# Altium footprint library CELLULAR.PcbLib: 19 footprints (part 1 of 2)
Each footprint in its own frame and in the unit in brackets; x right, y up, seen from the top. Pads: shape width x height; smd on the part's side, far side on the other; paste and mask are expansions set on the pad; w line width, h text height; cw(c..) or ccw(c..) is an arc to the next point about the centre after c.
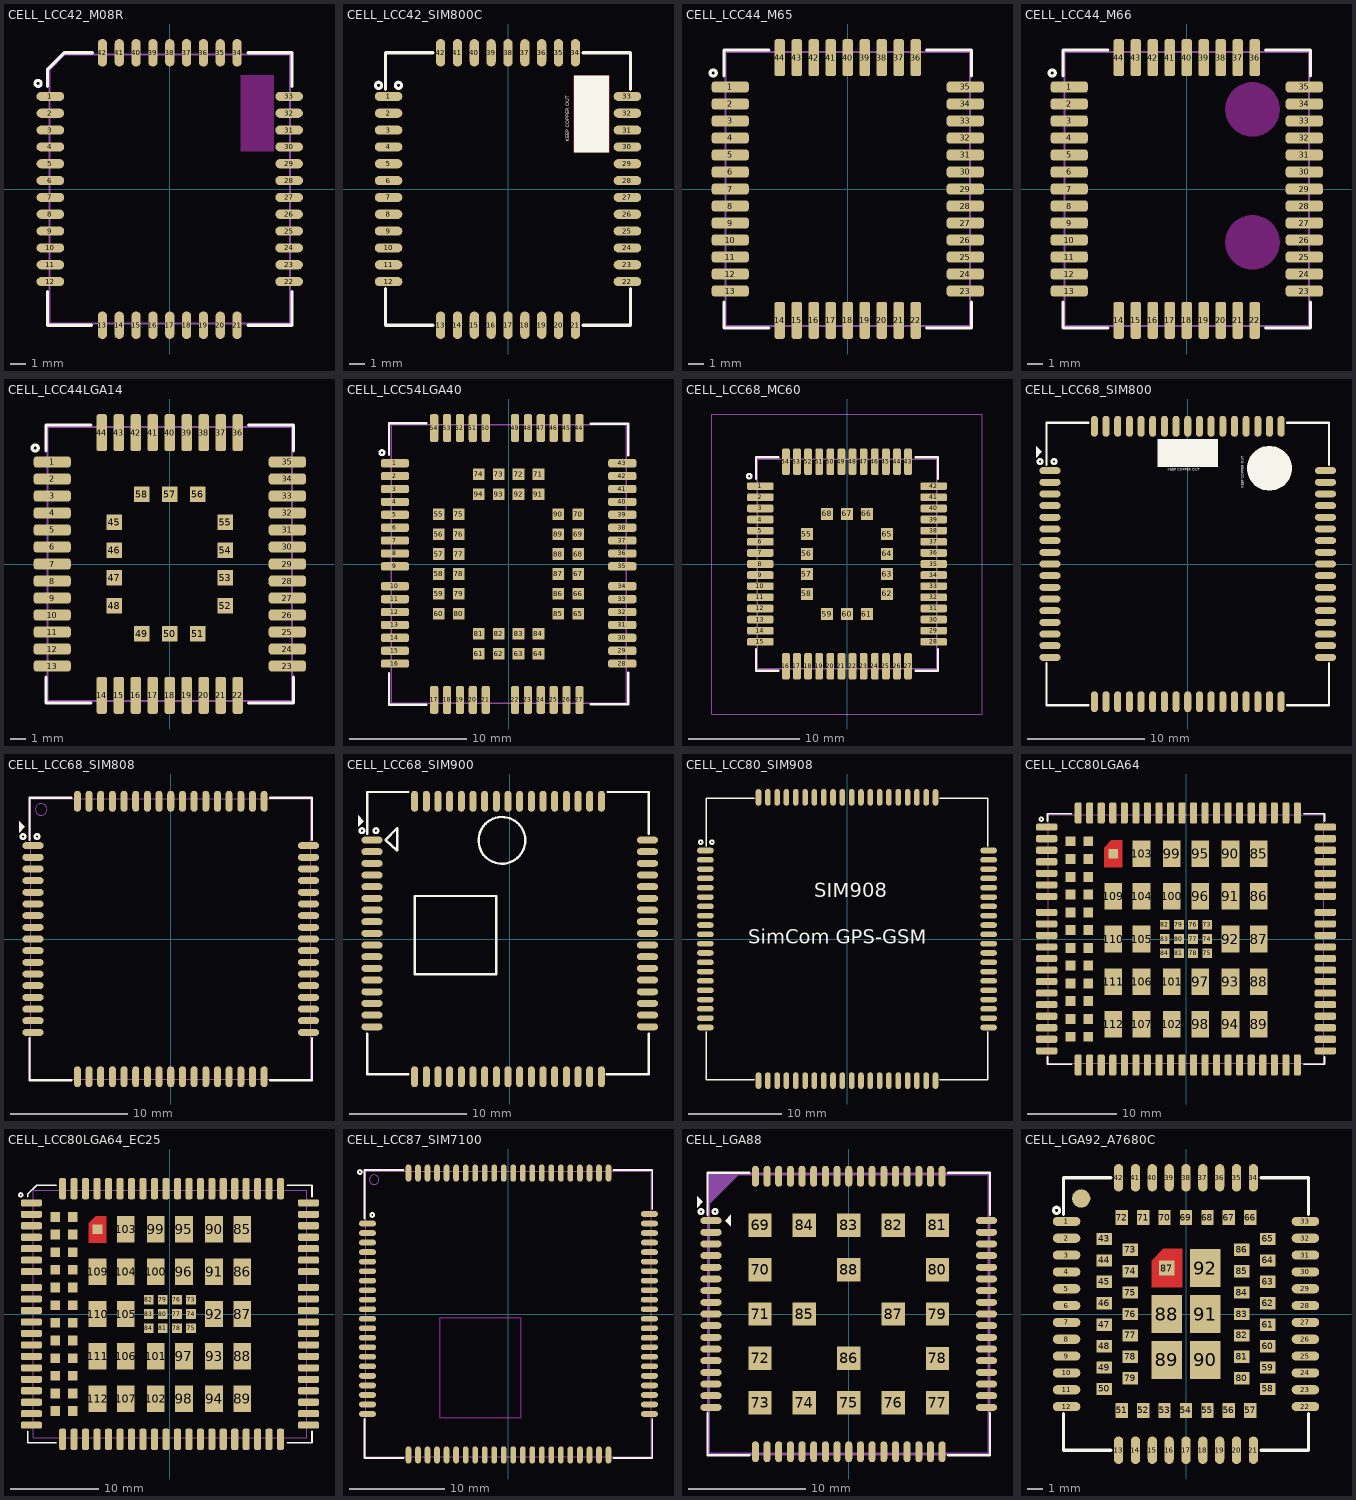
[diagram p0: the footprints below, top view; thin cyan lines are the x and y axes]

## CELL_LCC42_M08R [mm] "LCC-42 17.6x15.7x2.4mm. M08-R"
height 2.6
pads (42):
  oval 1.8x0.6 smd: 1(-7.8,6.05) 2(-7.8,4.95) 3(-7.8,3.85) 4(-7.8,2.75) 5(-7.8,1.65) 6(-7.8,0.55) 7(-7.8,-0.55) 8(-7.8,-1.65) 9(-7.8,-2.75) 10(-7.8,-3.85) 11(-7.8,-4.95) 12(-7.8,-6.05) 22(7.8,-6.05) 23(7.8,-4.95) 24(7.8,-3.85) 25(7.8,-2.75) 26(7.8,-1.65) 27(7.8,-0.55) 28(7.8,0.55) 29(7.8,1.65) 30(7.8,2.75) 31(7.8,3.85) 32(7.8,4.95) 33(7.8,6.05)
  oval 0.6x1.8 smd: 13(-4.4,-8.9) 14(-3.3,-8.9) 15(-2.2,-8.9) 16(-1.1,-8.9) 17(0,-8.9) 18(1.1,-8.9) 19(2.2,-8.9) 20(3.3,-8.9) 21(4.4,-8.9) 34(4.4,8.9) 35(3.3,8.9) 36(2.2,8.9) 37(1.1,8.9) 38(0,8.9) 39(-1.1,8.9) 40(-2.2,8.9) 41(-3.3,8.9) 42(-4.4,8.9)
Top Layer keep-out:
  region: 6.8,2.48 4.65,2.48 4.65,7.43 6.8,7.43
Top Overlay:
  circle w0.2: c-8.6,6.9 r0.2
  lines w0.2: -8,-6.7 -8,-8.9 -5.1,-8.9 ; -8,6.695 -8,7.8 -6.9,8.9 -5.045,8.9 ; 5.1,-8.9 8,-8.9 8,-6.7 ; 5.1,8.9 8,8.9 8,6.7
Mechanical 13:
  lines w0.127: -7.85,-8.8 -7.85,7.8 -6.85,8.8 7.85,8.8 7.85,-8.8 -7.85,-8.8
3D body "step_temp.STEP": height 2.6, standoff 0, extent -7.85,-8.8 7.85,8.8

## CELL_LCC42_SIM800C [mm] "LCC-42 17.6x15.7x2.3mm"
pads (42):
  oval 1.8x0.6 smd: 1(-7.8,6.05) 2(-7.8,4.95) 3(-7.8,3.85) 4(-7.8,2.75) 5(-7.8,1.65) 6(-7.8,0.55) 7(-7.8,-0.55) 8(-7.8,-1.65) 9(-7.8,-2.75) 10(-7.8,-3.85) 11(-7.8,-4.95) 12(-7.8,-6.05) 22(7.8,-6.05) 23(7.8,-4.95) 24(7.8,-3.85) 25(7.8,-2.75) 26(7.8,-1.65) 27(7.8,-0.55) 28(7.8,0.55) 29(7.8,1.65) 30(7.8,2.75) 31(7.8,3.85) 32(7.8,4.95) 33(7.8,6.05)
  oval 0.6x1.8 smd: 13(-4.4,-8.9) 14(-3.3,-8.9) 15(-2.2,-8.9) 16(-1.1,-8.9) 17(0,-8.9) 18(1.1,-8.9) 19(2.2,-8.9) 20(3.3,-8.9) 21(4.4,-8.9) 34(4.4,8.9) 35(3.3,8.9) 36(2.2,8.9) 37(1.1,8.9) 38(0,8.9) 39(-1.1,8.9) 40(-2.2,8.9) 41(-3.3,8.9) 42(-4.4,8.9)
Top Layer:
  pour cut-out: 6.6,7.4 4.3,7.4 4.3,2.4 6.6,2.4
Top Overlay:
  circle w0.2: c-7.155,6.774 r0.2
  circle w0.2: c-8.455,6.774 r0.2
  rectangle: 4.3,2.4 6.6,7.4
  lines w0.2: -8,-6.5 -8,-8.9 -4.9,-8.9 ; -8,6.5 -8,8.9 -4.9,8.9 ; 4.9,-8.9 8,-8.9 8,-6.5 ; 4.9,8.9 8,8.9 8,6.5
  text "KEEP COPPER OUT" at 4.1,3.1 h0.4
3D body "SIM800C-1.STEP": height 2.37, standoff 0.03, extent -7.849,-8.812 7.851,8.788

## CELL_LCC44_M65 [mm] "LCC-44, 17.7x15.8x2.4mm"
height 2.6
pads (44):
  rrect50% 2.4x0.7 smd paste-0.05: 1(-7.6,6.6) 2(-7.6,5.5) 3(-7.6,4.4) 4(-7.6,3.3) 5(-7.6,2.2) 6(-7.6,1.1) 7(-7.6,0) 8(-7.6,-1.1) 9(-7.6,-2.2) 10(-7.6,-3.3) 11(-7.6,-4.4) 12(-7.6,-5.5) 13(-7.6,-6.6) 23(7.6,-6.6) 24(7.6,-5.5) 25(7.6,-4.4) 26(7.6,-3.3) 27(7.6,-2.2) 28(7.6,-1.1) 29(7.6,0) 30(7.6,1.1) 31(7.6,2.2) 32(7.6,3.3) 33(7.6,4.4) 34(7.6,5.5) 35(7.6,6.6)
  rrect50% 0.7x2.4 smd paste-0.05: 14(-4.4,-8.5) 15(-3.3,-8.5) 16(-2.2,-8.5) 17(-1.1,-8.5) 18(0,-8.5) 19(1.1,-8.5) 20(2.2,-8.5) 21(3.3,-8.5) 22(4.4,-8.5) 36(4.4,8.5) 37(3.3,8.5) 38(2.2,8.5) 39(1.1,8.5) 40(0,8.5) 41(-1.1,8.5) 42(-2.2,8.5) 43(-3.3,8.5) 44(-4.4,8.5)
Top Overlay:
  circle w0.2: c-8.7,7.5 r0.2
  lines w0.2: -8,-7.3 -8,-9 -5.1,-9 ; -8,7.3 -8,9 -5.1,9 ; 5.1,-9 8,-9 8,-7.3 ; 5.1,9 8,9 8,7.3
Mechanical 13:
  lines w0.127: -7.9,-8.85 -7.9,8.85 7.9,8.85 7.9,-8.85 -7.9,-8.85
3D body "step_temp.STEP": height 2.6, standoff 0, extent -7.9,-8.85 7.9,8.85

## CELL_LCC44_M66 [mm] "LCC-44, 17.7x15.8x2.4mm"
height 2.6
pads (44):
  rrect50% 2.4x0.7 smd paste-0.05: 1(-7.6,6.6) 2(-7.6,5.5) 3(-7.6,4.4) 4(-7.6,3.3) 5(-7.6,2.2) 6(-7.6,1.1) 7(-7.6,0) 8(-7.6,-1.1) 9(-7.6,-2.2) 10(-7.6,-3.3) 11(-7.6,-4.4) 12(-7.6,-5.5) 13(-7.6,-6.6) 23(7.6,-6.6) 24(7.6,-5.5) 25(7.6,-4.4) 26(7.6,-3.3) 27(7.6,-2.2) 28(7.6,-1.1) 29(7.6,0) 30(7.6,1.1) 31(7.6,2.2) 32(7.6,3.3) 33(7.6,4.4) 34(7.6,5.5) 35(7.6,6.6)
  rrect50% 0.7x2.4 smd paste-0.05: 14(-4.4,-8.5) 15(-3.3,-8.5) 16(-2.2,-8.5) 17(-1.1,-8.5) 18(0,-8.5) 19(1.1,-8.5) 20(2.2,-8.5) 21(3.3,-8.5) 22(4.4,-8.5) 36(4.4,8.5) 37(3.3,8.5) 38(2.2,8.5) 39(1.1,8.5) 40(0,8.5) 41(-1.1,8.5) 42(-2.2,8.5) 43(-3.3,8.5) 44(-4.4,8.5)
Top Layer keep-out:
  region: 4.342,-1.702 4.433,-1.71 4.524,-1.722 4.614,-1.738 4.703,-1.76 4.791,-1.786 4.877,-1.816 4.962,-1.851 5.044,-1.891 5.125,-1.934 5.203,-1.982 5.279,-2.034 5.351,-2.09 5.421,-2.149 5.487,-2.213 5.551,-2.279 5.61,-2.349 5.666,-2.421 5.718,-2.497 5.766,-2.575 5.809,-2.656 5.849,-2.738 5.884,-2.823 5.914,-2.909 5.94,-2.997 5.962,-3.086 5.978,-3.176 5.99,-3.267 5.998,-3.358 6,-3.45 5.998,-3.542 5.99,-3.633 5.978,-3.724 5.962,-3.814 5.94,-3.903 5.914,-3.991 5.884,-4.077 5.849,-4.162 5.809,-4.244 5.766,-4.325 5.718,-4.403 5.666,-4.479 5.61,-4.551 5.551,-4.621 5.487,-4.687 5.421,-4.751 5.351,-4.81 5.279,-4.866 5.203,-4.918 5.125,-4.966 5.044,-5.009 4.962,-5.049 4.877,-5.084 4.791,-5.114 4.703,-5.14 4.614,-5.162 4.524,-5.178 4.433,-5.19 4.342,-5.198 4.25,-5.2 4.158,-5.198 4.067,-5.19 3.976,-5.178 3.886,-5.162 3.797,-5.14 3.709,-5.114 3.623,-5.084 3.538,-5.049 3.456,-5.009 3.375,-4.966 3.297,-4.918 3.221,-4.866 3.149,-4.81 3.079,-4.751 3.013,-4.687 2.949,-4.621 2.89,-4.551 2.834,-4.479 2.782,-4.403 2.734,-4.325 2.691,-4.244 2.651,-4.162 2.616,-4.077 2.586,-3.991 2.56,-3.903 2.538,-3.814 2.522,-3.724 2.51,-3.633 2.502,-3.542 2.5,-3.45 2.502,-3.358 2.51,-3.267 2.522,-3.176 2.538,-3.086 2.56,-2.997 2.586,-2.909 2.616,-2.823 2.651,-2.738 2.691,-2.656 2.734,-2.575 2.782,-2.497 2.834,-2.421 2.89,-2.349 2.949,-2.279 3.013,-2.213 3.079,-2.149 3.149,-2.09 3.221,-2.034 3.297,-1.982 3.375,-1.934 3.456,-1.891 3.538,-1.851 3.623,-1.816 3.709,-1.786 3.797,-1.76 3.886,-1.738 3.976,-1.722 4.067,-1.71 4.158,-1.702 4.25,-1.7
  region: 4.342,6.898 4.433,6.89 4.524,6.878 4.614,6.862 4.703,6.84 4.791,6.814 4.877,6.784 4.962,6.749 5.044,6.709 5.125,6.666 5.203,6.618 5.279,6.566 5.351,6.51 5.421,6.451 5.487,6.387 5.551,6.321 5.61,6.251 5.666,6.179 5.718,6.103 5.766,6.025 5.809,5.944 5.849,5.862 5.884,5.777 5.914,5.691 5.94,5.603 5.962,5.514 5.978,5.424 5.99,5.333 5.998,5.242 6,5.15 5.998,5.058 5.99,4.967 5.978,4.876 5.962,4.786 5.94,4.697 5.914,4.609 5.884,4.523 5.849,4.438 5.809,4.356 5.766,4.275 5.718,4.197 5.666,4.121 5.61,4.049 5.551,3.979 5.487,3.913 5.421,3.849 5.351,3.79 5.279,3.734 5.203,3.682 5.125,3.634 5.044,3.591 4.962,3.551 4.877,3.516 4.791,3.486 4.703,3.46 4.614,3.438 4.524,3.422 4.433,3.41 4.342,3.402 4.25,3.4 4.158,3.402 4.067,3.41 3.976,3.422 3.886,3.438 3.797,3.46 3.709,3.486 3.623,3.516 3.538,3.551 3.456,3.591 3.375,3.634 3.297,3.682 3.221,3.734 3.149,3.79 3.079,3.849 3.013,3.913 2.949,3.979 2.89,4.049 2.834,4.121 2.782,4.197 2.734,4.275 2.691,4.356 2.651,4.438 2.616,4.523 2.586,4.609 2.56,4.697 2.538,4.786 2.522,4.876 2.51,4.967 2.502,5.058 2.5,5.15 2.502,5.242 2.51,5.333 2.522,5.424 2.538,5.514 2.56,5.603 2.586,5.691 2.616,5.777 2.651,5.862 2.691,5.944 2.734,6.025 2.782,6.103 2.834,6.179 2.89,6.251 2.949,6.321 3.013,6.387 3.079,6.451 3.149,6.51 3.221,6.566 3.297,6.618 3.375,6.666 3.456,6.709 3.538,6.749 3.623,6.784 3.709,6.814 3.797,6.84 3.886,6.862 3.976,6.878 4.067,6.89 4.158,6.898 4.25,6.9
Top Overlay:
  circle w0.2: c-8.7,7.5 r0.2
  lines w0.2: -8,-7.3 -8,-9 -5.1,-9 ; -8,7.3 -8,9 -5.1,9 ; 5.1,-9 8,-9 8,-7.3 ; 5.1,9 8,9 8,7.3
Mechanical 13:
  lines w0.127: -7.9,-8.85 7.9,-8.85 7.9,8.85 -7.9,8.85 -7.9,-8.85
3D body "step_temp.STEP": height 2.5, standoff 0, extent -7.9,-8.85 7.9,8.85

## CELL_LCC44LGA14 [mm] "LCC-44 + LGA-14, 17.7x15.8x2.4mm"
height 2.6
pads (58):
  rrect50% 2.4x0.7 smd paste-0.05: 1(-7.6,6.6) 2(-7.6,5.5) 3(-7.6,4.4) 4(-7.6,3.3) 5(-7.6,2.2) 6(-7.6,1.1) 7(-7.6,0) 8(-7.6,-1.1) 9(-7.6,-2.2) 10(-7.6,-3.3) 11(-7.6,-4.4) 12(-7.6,-5.5) 13(-7.6,-6.6) 23(7.6,-6.6) 24(7.6,-5.5) 25(7.6,-4.4) 26(7.6,-3.3) 27(7.6,-2.2) 28(7.6,-1.1) 29(7.6,0) 30(7.6,1.1) 31(7.6,2.2) 32(7.6,3.3) 33(7.6,4.4) 34(7.6,5.5) 35(7.6,6.6)
  rrect50% 0.7x2.4 smd paste-0.05: 14(-4.4,-8.5) 15(-3.3,-8.5) 16(-2.2,-8.5) 17(-1.1,-8.5) 18(0,-8.5) 19(1.1,-8.5) 20(2.2,-8.5) 21(3.3,-8.5) 22(4.4,-8.5) 36(4.4,8.5) 37(3.3,8.5) 38(2.2,8.5) 39(1.1,8.5) 40(0,8.5) 41(-1.1,8.5) 42(-2.2,8.5) 43(-3.3,8.5) 44(-4.4,8.5)
  rect 1x1 smd paste-0.053: 45(-3.6,2.7) 46(-3.6,0.9) 47(-3.6,-0.9) 48(-3.6,-2.7) 49(-1.8,-4.5) 50(0,-4.5) 51(1.8,-4.5) 52(3.6,-2.7) 53(3.6,-0.9) 54(3.6,0.9) 55(3.6,2.7) 56(1.8,4.5) 57(0,4.5) 58(-1.8,4.5)
Top Overlay:
  circle w0.2: c-8.7,7.5 r0.2
  lines w0.2: -8,-7.3 -8,-9 -5.1,-9 ; -8,7.3 -8,9 -5.1,9 ; 5.1,-9 8,-9 8,-7.3 ; 5.1,9 8,9 8,7.3
Mechanical 13:
  lines w0.127: -7.9,-8.85 -7.9,8.85 7.9,8.85 7.9,-8.85 -7.9,-8.85
3D body "step_temp.STEP": height 2, standoff 0, extent -7.9,-8.85 7.9,8.85
3D body "step_temp.STEP": height 2.6, standoff 0, extent -7.9,-8.85 7.9,8.85

## CELL_LCC54LGA40 [mm] "LCC-44 + LGA-14, 23.6x19.9x2.2mm"
pads (94):
  rrect50% 2.4x0.7 smd paste-0.057: 1(-9.7,8.6) 2(-9.7,7.5) 3(-9.7,6.4) 4(-9.7,5.3) 5(-9.7,4.2) 6(-9.7,3.1) 7(-9.7,2) 8(-9.7,0.9) 9(-9.7,-0.2) 10(-9.7,-1.9) 11(-9.7,-3) 12(-9.7,-4.1) 13(-9.7,-5.2) 14(-9.7,-6.3) 15(-9.7,-7.4) 16(-9.7,-8.5) 28(9.7,-8.5) 29(9.7,-7.4) 30(9.7,-6.3) 31(9.7,-5.2) 32(9.7,-4.1) 33(9.7,-3) 34(9.7,-1.9) 35(9.7,-0.2) 36(9.7,0.9) 37(9.7,2) 38(9.7,3.1) 39(9.7,4.2) 40(9.7,5.3) 41(9.7,6.4) 42(9.7,7.5) 43(9.7,8.6)
  rrect50% 0.7x2.4 smd paste-0.057: 17(-6.35,-11.6) 18(-5.25,-11.6) 19(-4.15,-11.6) 20(-3.05,-11.6) 21(-1.95,-11.6) 22(0.55,-11.6) 23(1.65,-11.6) 24(2.75,-11.6) 25(3.85,-11.6) 26(4.95,-11.6) 27(6.05,-11.6) 44(6.05,11.6) 45(4.95,11.6) 46(3.85,11.6) 47(2.75,11.6) 48(1.65,11.6) 49(0.55,11.6) 50(-1.95,11.6) 51(-3.05,11.6) 52(-4.15,11.6) 53(-5.25,11.6) 54(-6.35,11.6)
  rect 1x1 smd paste-0.053: 55(-5.95,4.25) 56(-5.95,2.55) 57(-5.95,0.85) 58(-5.95,-0.85) 59(-5.95,-2.55) 60(-5.95,-4.25) 61(-2.55,-7.65) 62(-0.85,-7.65) 63(0.85,-7.65) 64(2.55,-7.65) 65(5.95,-4.25) 66(5.95,-2.55) 67(5.95,-0.85) 68(5.95,0.85) 69(5.95,2.55) 70(5.95,4.25) 71(2.55,7.65) 72(0.85,7.65) 73(-0.85,7.65) 74(-2.55,7.65) 75(-4.25,4.25) 76(-4.25,2.55) 77(-4.25,0.85) 78(-4.25,-0.85) 79(-4.25,-2.55) 80(-4.25,-4.25) 81(-2.55,-5.95) 82(-0.85,-5.95) 83(0.85,-5.95) 84(2.55,-5.95) 85(4.25,-4.25) 86(4.25,-2.55) 87(4.25,-0.85) 88(4.25,0.85) 89(4.25,2.55) 90(4.25,4.25) 91(2.55,5.95) 92(0.85,5.95) 93(-0.85,5.95) 94(-2.55,5.95)
Top Overlay:
  circle w0.2: c-10.8,9.5 r0.2
  lines w0.2: -10.2,-9.3 -10.2,-12 -7,-12 ; -10.2,9.3 -10.2,12 -7,12 ; 7.001,-11.97 10.201,-11.97 10.201,-9.27 ; 7.001,11.97 10.201,11.97 10.201,9.27
Mechanical 13:
  lines w0.127: -10.025,-11.875 10.025,-11.875 10.025,11.875 -10.025,11.875 -10.025,-11.875
3D body "BC95GJB-02-STD.STEP": height 2.4, standoff 0, extent -9.95,-11.8 9.95,11.8

## CELL_LCC68_MC60 [mm] "LCC-68, 18.7x16x2.1mm"
pads (68):
  rrect50% 2.4x0.7 smd paste-0.057 mask+0.075: 1(-7.8,7) 2(-7.8,6) 3(-7.8,5) 4(-7.8,4) 5(-7.8,3) 6(-7.8,2) 7(-7.8,1) 8(-7.8,0) 9(-7.8,-1) 10(-7.8,-2) 11(-7.8,-3) 12(-7.8,-4) 13(-7.8,-5) 14(-7.8,-6) 15(-7.8,-7) 28(7.8,-7) 29(7.8,-6) 30(7.8,-5) 31(7.8,-4) 32(7.8,-3) 33(7.8,-2) 34(7.8,-1) 35(7.8,0) 36(7.8,1) 37(7.8,2) 38(7.8,3) 39(7.8,4) 40(7.8,5) 41(7.8,6) 42(7.8,7)
  rrect50% 0.7x2.4 smd paste-0.057 mask+0.075: 16(-5.5,-9.2) 17(-4.5,-9.2) 18(-3.5,-9.2) 19(-2.5,-9.2) 20(-1.5,-9.2) 21(-0.5,-9.2) 22(0.5,-9.2) 23(1.5,-9.2) 24(2.5,-9.2) 25(3.5,-9.2) 26(4.5,-9.2) 27(5.5,-9.2) 43(5.5,9.2) 44(4.5,9.2) 45(3.5,9.2) 46(2.5,9.2) 47(1.5,9.2) 48(0.5,9.2) 49(-0.5,9.2) 50(-1.5,9.2) 51(-2.5,9.2) 52(-3.5,9.2) 53(-4.5,9.2) 54(-5.5,9.2)
  rect 1.1x1.1 smd paste-0.09 mask+0.075: 55(-3.6,2.7) 56(-3.6,0.9) 57(-3.6,-0.9) 58(-3.6,-2.7) 59(-1.8,-4.5) 60(0,-4.5) 61(1.8,-4.5) 62(3.6,-2.7) 63(3.6,-0.9) 64(3.6,0.9) 65(3.6,2.7) 66(1.8,4.5) 67(0,4.5) 68(-1.8,4.5)
Top Overlay:
  circle w0.2: c-8.8,7.9 r0.2
  lines w0.2: -8.2,-7.664 -8.2,-9.6 -6.164,-9.6 ; -8.2,7.664 -8.2,9.6 -6.164,9.6 ; 6.164,-9.6 8.2,-9.6 8.2,-7.664 ; 6.164,9.6 8.2,9.6 8.2,7.664
Mechanical 13:
  lines w0.127: -8.075,-9.425 -8.075,9.425 8.075,9.425 8.075,-9.425 -8.075,-9.425
Mechanical 15:
  lines w0.05: -12.15,-13.5 -12.15,13.5 12.15,13.5 12.15,-13.5 -12.15,-13.5
3D body "MC60--3DModel-STEP-269445.STEP": height 2.15, standoff 0, extent -8,-9.35 8,9.35

## CELL_LCC68_SIM800 [mm] "LCC-68 24x24x3mm"
pads (68):
  oval 1.8x0.6 smd: 1(-11.8,8) 2(-11.8,7) 3(-11.8,6) 4(-11.8,5) 5(-11.8,4) 6(-11.8,3) 7(-11.8,2) 8(-11.8,1) 9(-11.8,0) 10(-11.8,-1) 11(-11.8,-2) 12(-11.8,-3) 13(-11.8,-4) 14(-11.8,-5) 15(-11.8,-6) 16(-11.8,-7) 17(-11.8,-8) 35(11.8,-8) 36(11.8,-7) 37(11.8,-6) 38(11.8,-5) 39(11.8,-4) 40(11.8,-3) 41(11.8,-2) 42(11.8,-1) 43(11.8,0) 44(11.8,1) 45(11.8,2) 46(11.8,3) 47(11.8,4) 48(11.8,5) 49(11.8,6) 50(11.8,7) 51(11.8,8)
  oval 0.6x1.8 smd: 18(-8,-11.8) 19(-7,-11.8) 20(-6,-11.8) 21(-5,-11.8) 22(-4,-11.8) 23(-3,-11.8) 24(-2,-11.8) 25(-1,-11.8) 26(0,-11.8) 27(1,-11.8) 28(2,-11.8) 29(3,-11.8) 30(4,-11.8) 31(5,-11.8) 32(6,-11.8) 33(7,-11.8) 34(8,-11.8) 52(8,11.8) 53(7,11.8) 54(6,11.8) 55(5,11.8) 56(4,11.8) 57(3,11.8) 58(2,11.8) 59(1,11.8) 60(0,11.8) 61(-1,11.8) 62(-2,11.8) 63(-3,11.8) 64(-4,11.8) 65(-5,11.8) 66(-6,11.8) 67(-7,11.8) 68(-8,11.8)
Top Overlay:
  circle w0.2: c-11.455,8.774 r0.2
  circle w0.2: c-12.655,8.774 r0.2
  rectangle: -2.6,8.3 2.6,10.7
  region: -13,9.1 -13,10.1 -12.5,9.6
  region: 5.1,8.2 5.1,8.387 5.173,8.754 5.316,9.1 5.524,9.411 5.789,9.676 6.1,9.884 6.446,10.027 6.813,10.1 7,10.1 7.187,10.1 7.554,10.027 7.9,9.884 8.211,9.676 8.476,9.411 8.684,9.1 8.827,8.754 8.9,8.387 8.9,8.2 8.9,8.013 8.827,7.646 8.684,7.3 8.476,6.989 8.211,6.724 7.9,6.516 7.554,6.373 7.187,6.3 7,6.3 6.813,6.3 6.446,6.373 6.1,6.516 5.789,6.724 5.524,6.989 5.316,7.3 5.173,7.646 5.1,8.013
  lines w0.2: -12.1,-8.5 -12.1,-12.1 -8.5,-12.1 ; -12.1,8.5 -12.1,12.1 -8.5,12.1 ; 8.5,-12.1 12.1,-12.1 12.1,-8.5 ; 8.5,12.1 12.1,12.1 12.1,8.5
  text "KEEP COPPER OUT" at 4.9,6.5 h0.4
  text "KEEP COPPER OUT" at -1.7,7.9 h0.4
3D body "User Library-SIM800.step": height 3.1, standoff 0.1, extent -12,-12 12,12

## CELL_LCC68_SIM808 [mm] "GSM Module, SIM808, 1mm pitch, LCC-68 24x24x2.6mm"
height 2.6
pads (68):
  oval 1.8x0.6 smd: 1(-11.8,8) 2(-11.8,7) 3(-11.8,6) 4(-11.8,5) 5(-11.8,4) 6(-11.8,3) 7(-11.8,2) 8(-11.8,1) 9(-11.8,0) 10(-11.8,-1) 11(-11.8,-2) 12(-11.8,-3) 13(-11.8,-4) 14(-11.8,-5) 15(-11.8,-6) 16(-11.8,-7) 17(-11.8,-8) 35(11.8,-8) 36(11.8,-7) 37(11.8,-6) 38(11.8,-5) 39(11.8,-4) 40(11.8,-3) 41(11.8,-2) 42(11.8,-1) 43(11.8,0) 44(11.8,1) 45(11.8,2) 46(11.8,3) 47(11.8,4) 48(11.8,5) 49(11.8,6) 50(11.8,7) 51(11.8,8)
  oval 0.6x1.8 smd: 18(-8,-11.8) 19(-7,-11.8) 20(-6,-11.8) 21(-5,-11.8) 22(-4,-11.8) 23(-3,-11.8) 24(-2,-11.8) 25(-1,-11.8) 26(0,-11.8) 27(1,-11.8) 28(2,-11.8) 29(3,-11.8) 30(4,-11.8) 31(5,-11.8) 32(6,-11.8) 33(7,-11.8) 34(8,-11.8) 52(8,11.8) 53(7,11.8) 54(6,11.8) 55(5,11.8) 56(4,11.8) 57(3,11.8) 58(2,11.8) 59(1,11.8) 60(0,11.8) 61(-1,11.8) 62(-2,11.8) 63(-3,11.8) 64(-4,11.8) 65(-5,11.8) 66(-6,11.8) 67(-7,11.8) 68(-8,11.8)
Top Overlay:
  circle w0.2: c-12.655,8.774 r0.2
  circle w0.2: c-11.455,8.774 r0.2
  region: -13,9.1 -13,10.1 -12.5,9.6
  lines w0.2: -12.1,-8.5 -12.1,-12.1 -8.5,-12.1 ; -12.1,8.5 -12.1,12.1 -8.5,12.1 ; 8.5,-12.1 12.1,-12.1 12.1,-8.5 ; 8.5,12.1 12.1,12.1 12.1,8.5
Mechanical 13:
  circle w0.1: c-11.1,11.1 r0.5
  lines w0.1: -12,-12 -12,12 12,12 12,-12 -12,-12
3D body "User Library-SIM808.step": height 2.9, standoff 0, extent -12,-12 12,12

## CELL_LCC68_SIM900 [mm] "LCC-68 24x24x3mm"
pads (68):
  oval 1.8x0.6 smd mask+0.1: 1(-11.8,8.48) 2(-11.8,7.48) 3(-11.8,6.48) 4(-11.8,5.48) 5(-11.8,4.48) 6(-11.8,3.48) 7(-11.8,2.48) 8(-11.8,1.48) 9(-11.8,0.48) 10(-11.8,-0.52) 11(-11.8,-1.52) 12(-11.8,-2.52) 13(-11.8,-3.52) 14(-11.8,-4.52) 15(-11.8,-5.52) 16(-11.8,-6.52) 17(-11.8,-7.52) 35(11.8,-7.52) 36(11.8,-6.52) 37(11.8,-5.52) 38(11.8,-4.52) 39(11.8,-3.52) 40(11.8,-2.52) 41(11.8,-1.52) 42(11.8,-0.52) 43(11.8,0.48) 44(11.8,1.48) 45(11.8,2.48) 46(11.8,3.48) 47(11.8,4.48) 48(11.8,5.48) 49(11.8,6.48) 50(11.8,7.48) 51(11.8,8.48)
  oval 0.6x1.8 smd mask+0.1: 18(-8.15,-11.8) 19(-7.15,-11.8) 20(-6.15,-11.8) 21(-5.15,-11.8) 22(-4.15,-11.8) 23(-3.15,-11.8) 24(-2.15,-11.8) 25(-1.15,-11.8) 26(-0.15,-11.8) 27(0.85,-11.8) 28(1.85,-11.8) 29(2.85,-11.8) 30(3.85,-11.8) 31(4.85,-11.8) 32(5.85,-11.8) 33(6.85,-11.8) 34(7.85,-11.8) 52(7.85,11.8) 53(6.85,11.8) 54(5.85,11.8) 55(4.85,11.8) 56(3.85,11.8) 57(2.85,11.8) 58(1.85,11.8) 59(0.85,11.8) 60(-0.15,11.8) 61(-1.15,11.8) 62(-2.15,11.8) 63(-3.15,11.8) 64(-4.15,11.8) 65(-5.15,11.8) 66(-6.15,11.8) 67(-7.15,11.8) 68(-8.15,11.8)
Top Overlay:
  circle w0.2: c-11.455,9.274 r0.2
  circle w0.2: c-12.655,9.274 r0.2
  circle w0.2: c-0.67,8.45 r2
  region: -13,9.6 -13,10.6 -12.5,10.1
  lines w0.2: -12.2,-8.1 -12.2,-11.6 -8.7,-11.6 ; -12.2,9 -12.2,12.6 -8.7,12.6 ; 8.3,-11.6 11.9,-11.6 11.9,-8.1 ; 8.4,12.6 11.9,12.6 11.9,9 ; -10.65,8.48 -9.65,9.48 -9.65,7.58 -10.65,8.48 ; -8.15,-3.02 -1.15,-3.02 -1.15,3.68 -8.15,3.68 -8.15,-3.02
3D body "GSM_SIM900.STEP": height 3, standoff 0, extent -12.15,-11.5 11.85,12.5

## CELL_LCC80_SIM908 [mm] "LCC-80 30x30x3.2mm"
pads (80):
  oval 1.8x0.6 smd: 1(-15.2,9.5) 2(-15.2,8.5) 3(-15.2,7.5) 4(-15.2,6.5) 5(-15.2,5.5) 6(-15.2,4.5) 7(-15.2,3.5) 8(-15.2,2.5) 9(-15.2,1.5) 10(-15.2,0.5) 11(-15.2,-0.5) 12(-15.2,-1.5) 13(-15.2,-2.5) 14(-15.2,-3.5) 15(-15.2,-4.5) 16(-15.2,-5.5) 17(-15.2,-6.5) 18(-15.2,-7.5) 19(-15.2,-8.5) 20(-15.2,-9.5) 41(15.2,-9.5) 42(15.2,-8.5) 43(15.2,-7.5) 44(15.2,-6.5) 45(15.2,-5.5) 46(15.2,-4.5) 47(15.2,-3.5) 48(15.2,-2.5) 49(15.2,-1.5) 50(15.2,-0.5) 51(15.2,0.5) 52(15.2,1.5) 53(15.2,2.5) 54(15.2,3.5) 55(15.2,4.5) 56(15.2,5.5) 57(15.2,6.5) 58(15.2,7.5) 59(15.2,8.5) 60(15.2,9.5)
  oval 0.6x1.8 smd: 21(-9.5,-15.2) 22(-8.5,-15.2) 23(-7.5,-15.2) 24(-6.5,-15.2) 25(-5.5,-15.2) 26(-4.5,-15.2) 27(-3.5,-15.2) 28(-2.5,-15.2) 29(-1.5,-15.2) 30(-0.5,-15.2) 31(0.5,-15.2) 32(1.5,-15.2) 33(2.5,-15.2) 34(3.5,-15.2) 35(4.5,-15.2) 36(5.5,-15.2) 37(6.5,-15.2) 38(7.5,-15.2) 39(8.5,-15.2) 40(9.5,-15.2) 61(9.5,15.2) 62(8.5,15.2) 63(7.5,15.2) 64(6.5,15.2) 65(5.5,15.2) 66(4.5,15.2) 67(3.5,15.2) 68(2.5,15.2) 69(1.5,15.2) 70(0.5,15.2) 71(-0.5,15.2) 72(-1.5,15.2) 73(-2.5,15.2) 74(-3.5,15.2) 75(-4.5,15.2) 76(-5.5,15.2) 77(-6.5,15.2) 78(-7.5,15.2) 79(-8.5,15.2) 80(-9.5,15.2)
Top Overlay:
  circle w0.2: c-14.5,10.4 r0.2
  circle w0.2: c-15.7,10.4 r0.2
  lines w0.2: -15.1,-10 -15.1,-15.1 -10,-15.1 ; -15.1,10 -15.1,15.1 -10,15.1 ; 10,-15.1 15.1,-15.1 15.1,-10 ; 10,15.1 15.1,15.1 15.1,10
  text "SimCom GPS-GSM" at -10.576,-0.5 h1.52
  text "SIM908" at -3.5,4.5 h1.52
3D body "User Library-SIM908.STEP": height 3.39, standoff 0.19, extent -15,-15 15,15

## CELL_LCC80LGA64 [mm] "LCC-80 + LGA-64 31x28x2.4mm"
pads (144):
  rrect50% 2.4x0.8 smd paste-0.096: 1(-15.7,12.6) 2(-15.7,11.3) 3(-15.7,10) 4(-15.7,8.7) 5(-15.7,7.4) 6(-15.7,6.1) 7(-15.7,4.8) 8(-15.7,0.4) 9(-15.7,-0.9) 10(-15.7,-2.2) 11(-15.7,-3.5) 12(-15.7,-4.8) 13(-15.7,-6.1) 14(-15.7,-7.4) 15(-15.7,-8.7) 16(-15.7,-10) 17(-15.7,-11.3) 18(-15.7,-12.6) 37(15.7,-12.6) 38(15.7,-11.3) 39(15.7,-10) 40(15.7,-8.7) 41(15.7,-7.4) 42(15.7,-6.1) 43(15.7,-4.8) 44(15.7,-3.5) 45(15.7,-2.2) 46(15.7,-0.9) 47(15.7,0.4) 48(15.7,4.8) 49(15.7,6.1) 50(15.7,7.4) 51(15.7,8.7) 52(15.7,10) 53(15.7,11.3) 54(15.7,12.6) 141(-15.7,3) 142(-15.7,1.7) 143(15.7,1.7) 144(15.7,3)
  rrect50% 0.8x2.4 smd paste-0.096: 19(-9.55,-14.2) 20(-8.25,-14.2) 21(-6.95,-14.2) 22(-5.65,-14.2) 23(-4.35,-14.2) 24(-3.05,-14.2) 25(-1.75,-14.2) 26(-0.45,-14.2) 27(0.85,-14.2) 28(2.15,-14.2) 29(3.45,-14.2) 30(4.75,-14.2) 31(6.05,-14.2) 32(7.35,-14.2) 33(8.65,-14.2) 34(9.95,-14.2) 35(11.25,-14.2) 36(12.55,-14.2) 55(12.55,14.2) 56(11.25,14.2) 57(9.95,14.2) 58(8.65,14.2) 59(7.35,14.2) 60(6.05,14.2) 61(4.75,14.2) 62(3.45,14.2) 63(2.15,14.2) 64(0.85,14.2) 65(-0.45,14.2) 66(-1.75,14.2) 67(-3.05,14.2) 68(-4.35,14.2) 69(-5.65,14.2) 70(-6.95,14.2) 71(-8.25,14.2) 72(-9.55,14.2) 113(-10.85,14.2) 114(-12.15,14.2) 115(-10.85,-14.2) 116(-12.15,-14.2)
  rect 1.1x1.1 smd paste-0.058: 73(2.4,1.6) 74(2.4,0) 75(2.4,-1.6) 76(0.8,1.6) 77(0.8,0) 78(0.8,-1.6) 79(-0.8,1.6) 80(-0.8,0) 81(-0.8,-1.6) 82(-2.4,1.6) 83(-2.4,0) 84(-2.4,-1.6) 117(-11,11) 118(-11,9) 119(-11,7) 120(-11,5) 121(-11,3) 122(-11,1) 123(-11,-1) 124(-11,-3) 125(-11,-5) 126(-11,-7) 127(-11,-9) 128(-11,-11) 129(-13,11) 130(-13,9) 131(-13,7) 132(-13,5) 133(-13,3) 134(-13,1) 135(-13,-1) 136(-13,-3) 137(-13,-5) 138(-13,-7) 139(-13,-9) 140(-13,-11)
  rect 2x3 smd paste-0.195: 85(8.2,9.6) 86(8.2,4.8) 87(8.2,0) 88(8.2,-4.8) 89(8.2,-9.6) 90(5,9.6) 91(5,4.8) 92(5,0) 93(5,-4.8) 94(5,-9.6) 95(1.6,9.6) 96(1.6,4.8) 97(1.6,-4.8) 98(1.6,-9.6) 99(-1.6,9.6) 100(-1.6,4.8) 101(-1.6,-4.8) 102(-1.6,-9.6) 103(-5,9.6) 104(-5,4.8) 105(-5,0) 106(-5,-4.8) 107(-5,-9.6) 109(-8.2,4.8) 110(-8.2,0) 111(-8.2,-4.8) 112(-8.2,-9.6)
  rect 1.1x1.1 smd paste-0.058 mask+0: 108(-8.2,9.6)
Top Layer:
  region: -7.2,8.1 -9.2,8.1 -9.2,10.3 -8.4,11.1 -7.2,11.1
Top Overlay:
  circle w0.2: c-16.3,13.5 r0.2
  lines w0.2: -15.6,-13.3 -15.6,-14.1 -12.9,-14.1 ; -15.6,13.3 -15.6,14.1 -12.9,14.1 ; 13.3,-14.1 15.6,-14.1 15.6,-13.3 ; 13.3,14.1 15.6,14.1 15.6,13.3
Top Paste:
  region: -7.4,8.3 -9,8.3 -9,10.2 -8.3,10.9 -7.4,10.9
Top Solder:
  region: -7.1,8 -9.3,8 -9.3,10.35 -8.45,11.2 -7.1,11.2
Mechanical 13:
  lines w0.127: -15.5,-14 -15.5,14 15.5,14 15.5,-14 -15.5,-14
3D body "EC200UCNAC-N05-SNNSA--3DModel-STEP-258128.STEP": height 2.35, standoff 0, extent -15.5,-14 15.5,14

## CELL_LCC80LGA64_EC25 [mm] "LCC-80 + LGA-64 32x29x2.4mm"
pads (144):
  rrect50% 2.4x0.8 smd paste-0.096: 1(-15.7,12.6) 2(-15.7,11.3) 3(-15.7,10) 4(-15.7,8.7) 5(-15.7,7.4) 6(-15.7,6.1) 7(-15.7,4.8) 8(-15.7,0.4) 9(-15.7,-0.9) 10(-15.7,-2.2) 11(-15.7,-3.5) 12(-15.7,-4.8) 13(-15.7,-6.1) 14(-15.7,-7.4) 15(-15.7,-8.7) 16(-15.7,-10) 17(-15.7,-11.3) 18(-15.7,-12.6) 37(15.7,-12.6) 38(15.7,-11.3) 39(15.7,-10) 40(15.7,-8.7) 41(15.7,-7.4) 42(15.7,-6.1) 43(15.7,-4.8) 44(15.7,-3.5) 45(15.7,-2.2) 46(15.7,-0.9) 47(15.7,0.4) 48(15.7,4.8) 49(15.7,6.1) 50(15.7,7.4) 51(15.7,8.7) 52(15.7,10) 53(15.7,11.3) 54(15.7,12.6) 141(-15.7,3) 142(-15.7,1.7) 143(15.7,1.7) 144(15.7,3)
  rrect50% 0.8x2.4 smd paste-0.096: 19(-9.55,-14.2) 20(-8.25,-14.2) 21(-6.95,-14.2) 22(-5.65,-14.2) 23(-4.35,-14.2) 24(-3.05,-14.2) 25(-1.75,-14.2) 26(-0.45,-14.2) 27(0.85,-14.2) 28(2.15,-14.2) 29(3.45,-14.2) 30(4.75,-14.2) 31(6.05,-14.2) 32(7.35,-14.2) 33(8.65,-14.2) 34(9.95,-14.2) 35(11.25,-14.2) 36(12.55,-14.2) 55(12.55,14.2) 56(11.25,14.2) 57(9.95,14.2) 58(8.65,14.2) 59(7.35,14.2) 60(6.05,14.2) 61(4.75,14.2) 62(3.45,14.2) 63(2.15,14.2) 64(0.85,14.2) 65(-0.45,14.2) 66(-1.75,14.2) 67(-3.05,14.2) 68(-4.35,14.2) 69(-5.65,14.2) 70(-6.95,14.2) 71(-8.25,14.2) 72(-9.55,14.2) 113(-10.85,14.2) 114(-12.15,14.2) 115(-10.85,-14.2) 116(-12.15,-14.2)
  rect 1.1x1.1 smd paste-0.058: 73(2.4,1.6) 74(2.4,0) 75(2.4,-1.6) 76(0.8,1.6) 77(0.8,0) 78(0.8,-1.6) 79(-0.8,1.6) 80(-0.8,0) 81(-0.8,-1.6) 82(-2.4,1.6) 83(-2.4,0) 84(-2.4,-1.6) 117(-11,11) 118(-11,9) 119(-11,7) 120(-11,5) 121(-11,3) 122(-11,1) 123(-11,-1) 124(-11,-3) 125(-11,-5) 126(-11,-7) 127(-11,-9) 128(-11,-11) 129(-13,11) 130(-13,9) 131(-13,7) 132(-13,5) 133(-13,3) 134(-13,1) 135(-13,-1) 136(-13,-3) 137(-13,-5) 138(-13,-7) 139(-13,-9) 140(-13,-11)
  rect 2x3 smd paste-0.195: 85(8.2,9.6) 86(8.2,4.8) 87(8.2,0) 88(8.2,-4.8) 89(8.2,-9.6) 90(5,9.6) 91(5,4.8) 92(5,0) 93(5,-4.8) 94(5,-9.6) 95(1.6,9.6) 96(1.6,4.8) 97(1.6,-4.8) 98(1.6,-9.6) 99(-1.6,9.6) 100(-1.6,4.8) 101(-1.6,-4.8) 102(-1.6,-9.6) 103(-5,9.6) 104(-5,4.8) 105(-5,0) 106(-5,-4.8) 107(-5,-9.6) 109(-8.2,4.8) 110(-8.2,0) 111(-8.2,-4.8) 112(-8.2,-9.6)
  rect 1.1x1.1 smd paste-0.058 mask+0: 108(-8.2,9.6)
Top Layer:
  region: -7.2,8.1 -9.2,8.1 -9.2,10.3 -8.4,11.1 -7.2,11.1
Top Overlay:
  circle w0.2: c-16.9,13.5 r0.2
  lines w0.2: -16.1,-13.3 -16.1,-14.6 -12.9,-14.6 ; -16.1,13.3 -16.1,13.6 -15.1,14.6 -12.9,14.6 ; 13.3,-14.6 16.1,-14.6 16.1,-13.3 ; 13.3,14.6 16.1,14.6 16.1,13.3
Top Paste:
  region: -7.4,8.3 -9,8.3 -9,10.2 -8.3,10.9 -7.4,10.9
Top Solder:
  region: -7.1,8 -9.3,8 -9.3,10.35 -8.45,11.2 -7.1,11.2
Mechanical 13:
  lines w0.127: -15.5,-14 15.5,-14 15.5,14 -15.5,14 -15.5,-14
3D body "EC25--3DModel-STEP-269445.STEP": height 2.4, standoff 0, extent -16,-14.5 16,14.5

## CELL_LCC87_SIM7100 [mm] "SIM7100 SIM5360 LCC-87 pitch:1mm 30x30x3mm"
height 2.9
pads (87):
  oval 1.8x0.6 smd mask+0.075: 1(-14.8,9.5) 2(-14.8,8.5) 3(-14.8,7.5) 4(-14.8,6.5) 5(-14.8,5.5) 6(-14.8,4.5) 7(-14.8,3.5) 8(-14.8,2.5) 9(-14.8,1.5) 10(-14.8,0.5) 11(-14.8,-0.5) 12(-14.8,-1.5) 13(-14.8,-2.5) 14(-14.8,-3.5) 15(-14.8,-4.5) 16(-14.8,-5.5) 17(-14.8,-6.5) 18(-14.8,-7.5) 19(-14.8,-8.5) 20(-14.8,-9.5) 41(14.8,-9.5) 42(14.8,-8.5) 43(14.8,-7.5) 44(14.8,-6.5) 45(14.8,-5.5) 46(14.8,-4.5) 47(14.8,-3.5) 48(14.8,-2.5) 49(14.8,-1.5) 50(14.8,-0.5) 51(14.8,0.5) 52(14.8,1.5) 53(14.8,2.5) 54(14.8,3.5) 55(14.8,4.5) 56(14.8,5.5) 57(14.8,6.5) 58(14.8,7.5) 59(14.8,8.5) 60(14.8,9.5) 81(-14.8,-10.5) 82(14.8,-10.5) 85(14.8,10.5)
  oval 0.6x1.8 smd mask+0.075: 21(-9.5,-14.8) 22(-8.5,-14.8) 23(-7.5,-14.8) 24(-6.5,-14.8) 25(-5.5,-14.8) 26(-4.5,-14.8) 27(-3.5,-14.8) 28(-2.5,-14.8) 29(-1.5,-14.8) 30(-0.5,-14.8) 31(0.5,-14.8) 32(1.5,-14.8) 33(2.5,-14.8) 34(3.5,-14.8) 35(4.5,-14.8) 36(5.5,-14.8) 37(6.5,-14.8) 38(7.5,-14.8) 39(8.5,-14.8) 40(9.5,-14.8) 61(9.5,14.8) 62(8.5,14.8) 63(7.5,14.8) 64(6.5,14.8) 65(5.5,14.8) 66(4.5,14.8) 67(3.5,14.8) 68(2.5,14.8) 69(1.5,14.8) 70(0.5,14.8) 71(-0.5,14.8) 72(-1.5,14.8) 73(-2.5,14.8) 74(-3.5,14.8) 75(-4.5,14.8) 76(-5.5,14.8) 77(-6.5,14.8) 78(-7.5,14.8) 79(-8.5,14.8) 80(-9.5,14.8) 83(10.5,-14.8) 84(-10.5,-14.8) 86(-10.5,14.8) 87(10.5,14.8)
Top Overlay:
  circle w0.2: c-15.6,14.9 r0.2
  circle w0.2: c-14.3,10.4 r0.2
  lines w0.2: -15.1,-11 -15.1,-15.1 -11,-15.1 ; -15.1,10 -15.1,15.1 -11,15.1 ; 11,-15.1 15.1,-15.1 15.1,-11 ; 11,15.1 15.1,15.1 15.1,11
Keep-Out Layer:
  lines w0.15: -7.2,-10.9 1.3,-10.9 1.3,-0.4 -7.2,-0.4 -7.2,-10.9
Mechanical 13:
  circle w0.1: c-14.1,14.1 r0.5
  lines w0.1: -15,-15 15,-15 15,15 -15,15 -15,-15
3D body "User Library-SIM7100C.step": height 3.17, standoff 0, extent -15,-15 15,15

## CELL_LGA88 [mm] "LGA-68+20, 24x24x3mm"
pads (88):
  rrect100% 1.8x0.6 smd paste-0.1 mask+0.1: 1(-11.8,8) 2(-11.8,7) 3(-11.8,6) 4(-11.8,5) 5(-11.8,4) 6(-11.8,3) 7(-11.8,2) 8(-11.8,1) 9(-11.8,0) 10(-11.8,-1) 11(-11.8,-2) 12(-11.8,-3) 13(-11.8,-4) 14(-11.8,-5) 15(-11.8,-6) 16(-11.8,-7) 17(-11.8,-8) 35(11.8,-8) 36(11.8,-7) 37(11.8,-6) 38(11.8,-5) 39(11.8,-4) 40(11.8,-3) 41(11.8,-2) 42(11.8,-1) 43(11.8,0) 44(11.8,1) 45(11.8,2) 46(11.8,3) 47(11.8,4) 48(11.8,5) 49(11.8,6) 50(11.8,7) 51(11.8,8)
  rrect100% 0.6x1.8 smd paste-0.1 mask+0.1: 18(-8,-11.8) 19(-7,-11.8) 20(-6,-11.8) 21(-5,-11.8) 22(-4,-11.8) 23(-3,-11.8) 24(-2,-11.8) 25(-1,-11.8) 26(0,-11.8) 27(1,-11.8) 28(2,-11.8) 29(3,-11.8) 30(4,-11.8) 31(5,-11.8) 32(6,-11.8) 33(7,-11.8) 34(8,-11.8) 52(8,11.8) 53(7,11.8) 54(6,11.8) 55(5,11.8) 56(4,11.8) 57(3,11.8) 58(2,11.8) 59(1,11.8) 60(0,11.8) 61(-1,11.8) 62(-2,11.8) 63(-3,11.8) 64(-4,11.8) 65(-5,11.8) 66(-6,11.8) 67(-7,11.8) 68(-8,11.8)
  rect 2x2 smd paste-0.2 mask+0.1: 69(-7.6,7.6) 70(-7.6,3.8) 71(-7.6,0) 72(-7.6,-3.8) 73(-7.6,-7.6) 74(-3.8,-7.6) 75(0,-7.6) 76(3.8,-7.6) 77(7.6,-7.6) 78(7.6,-3.81) 79(7.6,0) 80(7.6,3.8) 81(7.6,7.6) 82(3.8,7.6) 83(0,7.6) 84(-3.8,7.6) 85(-3.8,0) 86(0,-3.8) 87(3.8,0) 88(0,3.8)
Top Overlay:
  circle w0.2: c-11.455,8.774 r0.2
  circle w0.2: c-12.655,8.774 r0.2
  region: -10.1,7.5 -10.1,8.5 -10.6,8
  region: -13,9.1 -13,10.1 -12.5,9.6
  lines w0.2: -12.1,-8.5 -12.1,-12.1 -8.5,-12.1 ; -12.1,8.5 -12.1,12.1 -8.5,12.1 ; 8.5,-12.1 12.1,-12.1 12.1,-8.5 ; 8.5,12.1 12.1,12.1 12.1,8.5
Mechanical 2:
  region: -11.945,12.023 -11.945,11.977 -11.977,11.945 -12.023,11.945 -12.055,11.977 -12.055,12.023 -12.023,12.055 -11.977,12.055
Mechanical 13:
  region: -12,9.35 -12,12 -9.35,12
  lines w0.254: -12,-12 -12,12 12,12 12,-12 -12,-12
3D body "A7670E.step": height 2.6, standoff 0, extent -12,-12 12,12

## CELL_LGA92_A7680C [mm] "LCC-42 17.6x15.7x2.3mm"
pads (93):
  oval 1.8x0.6 smd: 1(-7.8,6.05) 2(-7.8,4.95) 3(-7.8,3.85) 4(-7.8,2.75) 5(-7.8,1.65) 6(-7.8,0.55) 7(-7.8,-0.55) 8(-7.8,-1.65) 9(-7.8,-2.75) 10(-7.8,-3.85) 11(-7.8,-4.95) 12(-7.8,-6.05) 22(7.8,-6.05) 23(7.8,-4.95) 24(7.8,-3.85) 25(7.8,-2.75) 26(7.8,-1.65) 27(7.8,-0.55) 28(7.8,0.55) 29(7.8,1.65) 30(7.8,2.75) 31(7.8,3.85) 32(7.8,4.95) 33(7.8,6.05)
  oval 0.6x1.8 smd: 13(-4.4,-8.9) 14(-3.3,-8.9) 15(-2.2,-8.9) 16(-1.1,-8.9) 17(0,-8.9) 18(1.1,-8.9) 19(2.2,-8.9) 20(3.3,-8.9) 21(4.4,-8.9) 34(4.4,8.9) 35(3.3,8.9) 36(2.2,8.9) 37(1.1,8.9) 38(0,8.9) 39(-1.1,8.9) 40(-2.2,8.9) 41(-3.3,8.9) 42(-4.4,8.9)
  rect 1x0.8 smd mask+0.075: 43(-5.35,4.9) 44(-5.35,3.5) 45(-5.35,2.1) 46(-5.35,0.7) 47(-5.35,-0.7) 48(-5.35,-2.1) 49(-5.35,-3.5) 50(-5.35,-4.9) 58(5.35,-4.9) 59(5.35,-3.5) 60(5.35,-2.1) 61(5.35,-0.7) 62(5.35,0.7) 63(5.35,2.1) 64(5.35,3.5) 65(5.35,4.9) 73(-3.65,4.2) 74(-3.65,2.8) 75(-3.65,1.4) 76(-3.65,0) 77(-3.65,-1.4) 78(-3.65,-2.8) 79(-3.65,-4.2) 80(3.65,-4.2) 81(3.65,-2.8) 82(3.65,-1.4) 83(3.65,0) 84(3.65,1.4) 85(3.65,2.8) 86(3.65,4.2)
  rect 0.8x1 smd mask+0.075: 51(-4.2,-6.3) 52(-2.8,-6.3) 53(-1.4,-6.3) 54(0,-6.3) 55(1.4,-6.3) 56(2.8,-6.3) 57(4.2,-6.3) 66(4.2,6.3) 67(2.8,6.3) 68(1.4,6.3) 69(0,6.3) 70(-1.4,6.3) 71(-2.8,6.3) 72(-4.2,6.3)
  rect 1x1 smd: 87(-1.25,3)
  rect 2x2.5 smd mask+0.075: 88(-1.25,0) 89(-1.25,-3) 90(1.25,-3) 91(1.25,0) 92(1.25,3)
  round 1.2 smd: ""(-6.85,7.55)
Top Layer:
  region: -0.25,1.75 -2.25,1.75 -2.25,3.487 -1.487,4.25 -0.25,4.25
Top Overlay:
  circle w0.2: c-8.455,6.774 r0.2
  lines w0.2: -8,-6.5 -8,-8.9 -4.9,-8.9 ; -8,6.5 -8,8.9 -4.9,8.9 ; 4.9,-8.9 8,-8.9 8,-6.5 ; 4.9,8.9 8,8.9 8,6.5
3D body "SIM800C-1.STEP": height 2.37, standoff 0.03, extent -7.849,-8.812 7.851,8.788